# Altium schematic symbol library micro32_plus_Library.SchLib: 56 symbols
Pins are listed as number, name and electrical type; pins without a type are passive.

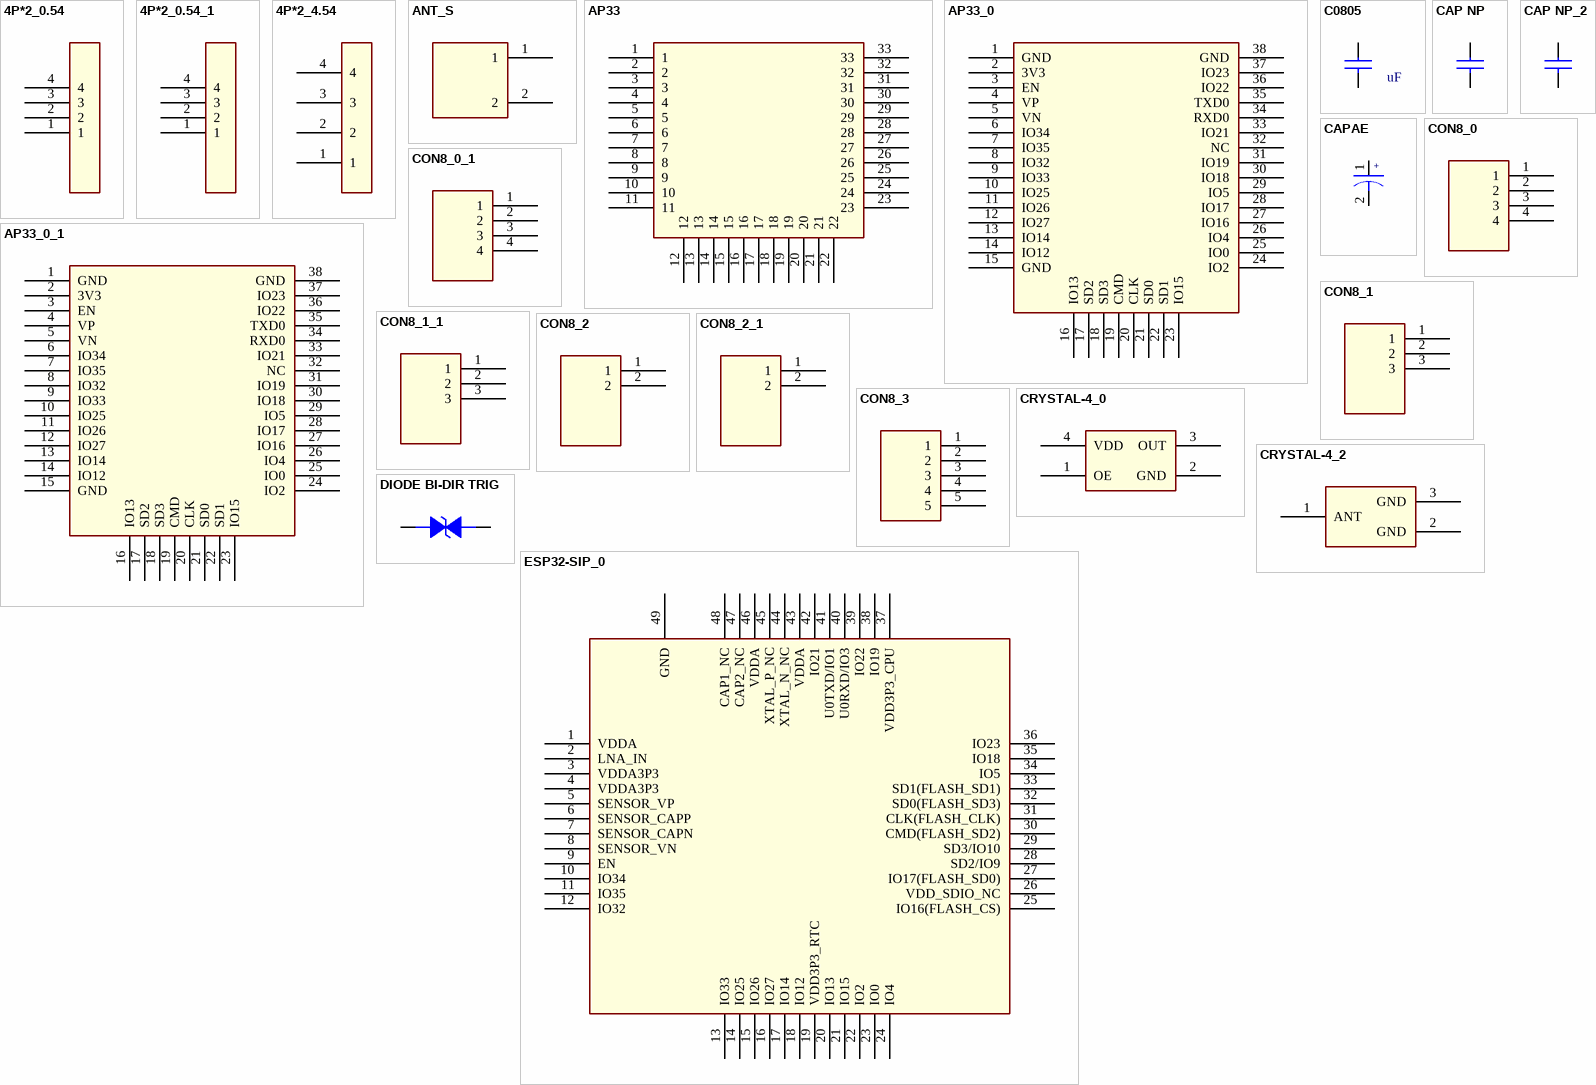
[diagram p0: symbols 4P*2_0.54 to ESP32-SIP_0]

## 4P*2_0.54
designator J??
pins: 1, 2, 3, 4

## 4P*2_0.54_1
designator J??
pins: 1, 2, 3, 4

## 4P*2_4.54
designator J??
pins: 1, 2, 3, 4

## ANT_S
designator U?
footprint ANT2
pins: 1, 2

## AP33
designator U?
footprint 33PIN_10
pins: 1, 2, 3, 4, 5, 6, 7, 8, 9, 10, 11, 12, 13, 14, 15, 16, 17, 18, 19, 20, 21, 22, 23, 24, 25, 26, 27, 28, 29, 30, 31, 32, 33

## AP33_0
designator U?
footprint 33PIN_10
pins: 1 GND (power), 2 3V3, 3 EN, 4 VP, 5 VN, 6 IO34, 7 IO35, 8 IO32, 9 IO33, 10 IO25, 11 IO26, 12 IO27, 13 IO14, 14 IO12, 15 GND (power), 16 IO13, 17 SD2, 18 SD3, 19 CMD, 20 CLK, 21 SD0, 22 SD1, 23 IO15, 24 IO2, 25 IO0, 26 IO4, 27 IO16, 28 IO17, 29 IO5, 30 IO18, 31 IO19, 32 NC, 33 IO21, 34 RXD0, 35 TXD0, 36 IO22, 37 IO23, 38 GND (power)

## AP33_0_1
designator U?
footprint 33PIN_10
pins: 1 GND (power), 2 3V3, 3 EN, 4 VP, 5 VN, 6 IO34, 7 IO35, 8 IO32, 9 IO33, 10 IO25, 11 IO26, 12 IO27, 13 IO14, 14 IO12, 15 GND (power), 16 IO13, 17 SD2, 18 SD3, 19 CMD, 20 CLK, 21 SD0, 22 SD1, 23 IO15, 24 IO2, 25 IO0, 26 IO4, 27 IO16, 28 IO17, 29 IO5, 30 IO18, 31 IO19, 32 NC, 33 IO21, 34 RXD0, 35 TXD0, 36 IO22, 37 IO23, 38 GND (power)

## C0805
designator C?, comment uF
PCB Footprint: C0805
footprint C0805
pins: 1, 2

## CAP NP
designator C?
footprint C0402
pins: 1, 2

## CAP NP_2
designator C?
pins: 1, 2

## CAPAE
designator C?
Manufacturer #1: HuaWei（常州华威）; Part Number: CD11W; Description（描述）: ???; Rated Voltage range: 4~50V; Nominal capacitance range: 0.1~470uF; Capacitance tolerance: ±20%(120Hz,+20℃; Case size table: 5mm in height; Manufacturer #2: FengHua（广东风华）; Part Type: 铝电解电容（SM STD）
pins: 1, 2
text: +

## CON8_0
designator CON?
pins: 1, 2, 3, 4

## CON8_0_1
designator CON?
pins: 1, 2, 3, 4

## CON8_1
designator CON?
pins: 1, 2, 3

## CON8_1_1
designator CON?
pins: 1, 2, 3

## CON8_2
designator CON?
pins: 1, 2

## CON8_2_1
designator CON?
pins: 1, 2

## CON8_3
designator CON?
pins: 1, 2, 3, 4, 5

## CRYSTAL-4_0
designator Y?
footprint CRY-3225
pins: 1 OE, 2 GND, 3 OUT, 4 VDD

## CRYSTAL-4_2
designator Y?
footprint CRY-3225
pins: 1 ANT, 2 GND, 3 GND

## DIODE BI-DIR TRIG
designator D?
pins: 1, 2

## ESP32-SIP_0
designator U?
footprint QFN-49
pins: 1 VDDA (power), 2 LNA_IN, 3 VDDA3P3 (power), 4 VDDA3P3 (power), 5 SENSOR_VP, 6 SENSOR_CAPP, 7 SENSOR_CAPN, 8 SENSOR_VN, 9 EN, 10 IO34, 11 IO35, 12 IO32, 13 IO33, 14 IO25, 15 IO26, 16 IO27, 17 IO14, 18 IO12, 19 VDD3P3_RTC, 20 IO13, 21 IO15, 22 IO2, 23 IO0, 24 IO4, 25 IO16(FLASH_CS), 26 VDD_SDIO_NC, 27 IO17(FLASH_SD0), 28 SD2/IO9, 29 SD3/IO10, 30 CMD(FLASH_SD2), 31 CLK(FLASH_CLK), 32 SD0(FLASH_SD3), 33 SD1(FLASH_SD1), 34 IO5, 35 IO18, 36 IO23, 37 VDD3P3_CPU, 38 IO19, 39 IO22, 40 U0RXD/IO3, 41 U0TXD/IO1, 42 IO21, 43 VDDA (power), 44 XTAL_N_NC, 45 XTAL_P_NC, 46 VDDA (power), 47 CAP2_NC, 48 CAP1_NC, 49 GND

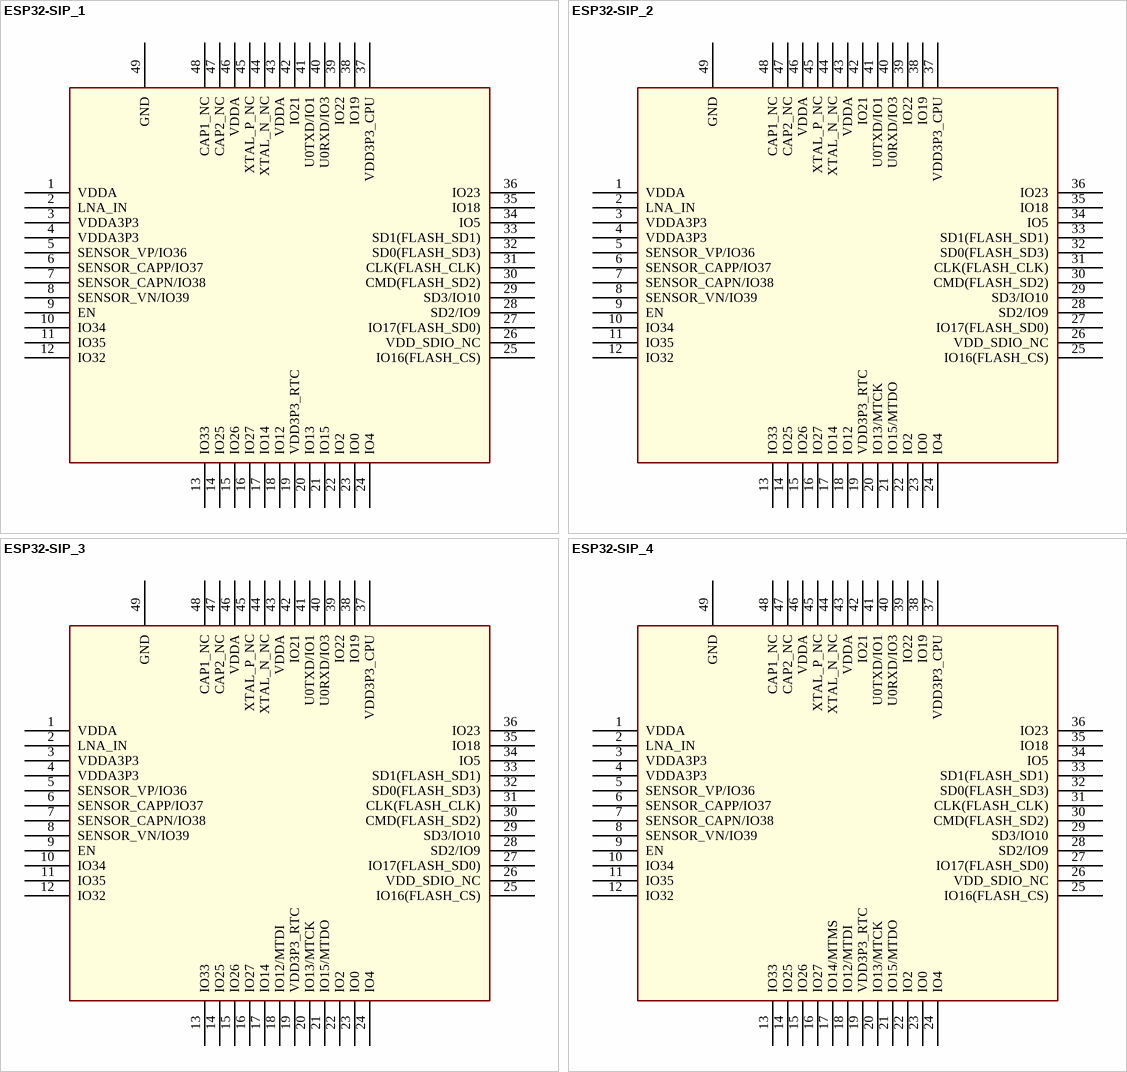
[diagram p1: symbols ESP32-SIP_1 to ESP32-SIP_4]

## ESP32-SIP_1
designator U?
footprint QFN-49
pins: 1 VDDA (power), 2 LNA_IN, 3 VDDA3P3 (power), 4 VDDA3P3 (power), 5 SENSOR_VP/IO36, 6 SENSOR_CAPP/IO37, 7 SENSOR_CAPN/IO38, 8 SENSOR_VN/IO39, 9 EN, 10 IO34, 11 IO35, 12 IO32, 13 IO33, 14 IO25, 15 IO26, 16 IO27, 17 IO14, 18 IO12, 19 VDD3P3_RTC, 20 IO13, 21 IO15, 22 IO2, 23 IO0, 24 IO4, 25 IO16(FLASH_CS), 26 VDD_SDIO_NC, 27 IO17(FLASH_SD0), 28 SD2/IO9, 29 SD3/IO10, 30 CMD(FLASH_SD2), 31 CLK(FLASH_CLK), 32 SD0(FLASH_SD3), 33 SD1(FLASH_SD1), 34 IO5, 35 IO18, 36 IO23, 37 VDD3P3_CPU, 38 IO19, 39 IO22, 40 U0RXD/IO3, 41 U0TXD/IO1, 42 IO21, 43 VDDA (power), 44 XTAL_N_NC, 45 XTAL_P_NC, 46 VDDA (power), 47 CAP2_NC, 48 CAP1_NC, 49 GND

## ESP32-SIP_2
designator U?
footprint QFN-49
pins: 1 VDDA (power), 2 LNA_IN, 3 VDDA3P3 (power), 4 VDDA3P3 (power), 5 SENSOR_VP/IO36, 6 SENSOR_CAPP/IO37, 7 SENSOR_CAPN/IO38, 8 SENSOR_VN/IO39, 9 EN, 10 IO34, 11 IO35, 12 IO32, 13 IO33, 14 IO25, 15 IO26, 16 IO27, 17 IO14, 18 IO12, 19 VDD3P3_RTC, 20 IO13/MTCK, 21 IO15/MTDO, 22 IO2, 23 IO0, 24 IO4, 25 IO16(FLASH_CS), 26 VDD_SDIO_NC, 27 IO17(FLASH_SD0), 28 SD2/IO9, 29 SD3/IO10, 30 CMD(FLASH_SD2), 31 CLK(FLASH_CLK), 32 SD0(FLASH_SD3), 33 SD1(FLASH_SD1), 34 IO5, 35 IO18, 36 IO23, 37 VDD3P3_CPU, 38 IO19, 39 IO22, 40 U0RXD/IO3, 41 U0TXD/IO1, 42 IO21, 43 VDDA (power), 44 XTAL_N_NC, 45 XTAL_P_NC, 46 VDDA (power), 47 CAP2_NC, 48 CAP1_NC, 49 GND

## ESP32-SIP_3
designator U?
footprint QFN-49
pins: 1 VDDA (power), 2 LNA_IN, 3 VDDA3P3 (power), 4 VDDA3P3 (power), 5 SENSOR_VP/IO36, 6 SENSOR_CAPP/IO37, 7 SENSOR_CAPN/IO38, 8 SENSOR_VN/IO39, 9 EN, 10 IO34, 11 IO35, 12 IO32, 13 IO33, 14 IO25, 15 IO26, 16 IO27, 17 IO14, 18 IO12/MTDI, 19 VDD3P3_RTC, 20 IO13/MTCK, 21 IO15/MTDO, 22 IO2, 23 IO0, 24 IO4, 25 IO16(FLASH_CS), 26 VDD_SDIO_NC, 27 IO17(FLASH_SD0), 28 SD2/IO9, 29 SD3/IO10, 30 CMD(FLASH_SD2), 31 CLK(FLASH_CLK), 32 SD0(FLASH_SD3), 33 SD1(FLASH_SD1), 34 IO5, 35 IO18, 36 IO23, 37 VDD3P3_CPU, 38 IO19, 39 IO22, 40 U0RXD/IO3, 41 U0TXD/IO1, 42 IO21, 43 VDDA (power), 44 XTAL_N_NC, 45 XTAL_P_NC, 46 VDDA (power), 47 CAP2_NC, 48 CAP1_NC, 49 GND

## ESP32-SIP_4
designator U?
footprint QFN-49
pins: 1 VDDA (power), 2 LNA_IN, 3 VDDA3P3 (power), 4 VDDA3P3 (power), 5 SENSOR_VP/IO36, 6 SENSOR_CAPP/IO37, 7 SENSOR_CAPN/IO38, 8 SENSOR_VN/IO39, 9 EN, 10 IO34, 11 IO35, 12 IO32, 13 IO33, 14 IO25, 15 IO26, 16 IO27, 17 IO14/MTMS, 18 IO12/MTDI, 19 VDD3P3_RTC, 20 IO13/MTCK, 21 IO15/MTDO, 22 IO2, 23 IO0, 24 IO4, 25 IO16(FLASH_CS), 26 VDD_SDIO_NC, 27 IO17(FLASH_SD0), 28 SD2/IO9, 29 SD3/IO10, 30 CMD(FLASH_SD2), 31 CLK(FLASH_CLK), 32 SD0(FLASH_SD3), 33 SD1(FLASH_SD1), 34 IO5, 35 IO18, 36 IO23, 37 VDD3P3_CPU, 38 IO19, 39 IO22, 40 U0RXD/IO3, 41 U0TXD/IO1, 42 IO21, 43 VDDA (power), 44 XTAL_N_NC, 45 XTAL_P_NC, 46 VDDA (power), 47 CAP2_NC, 48 CAP1_NC, 49 GND

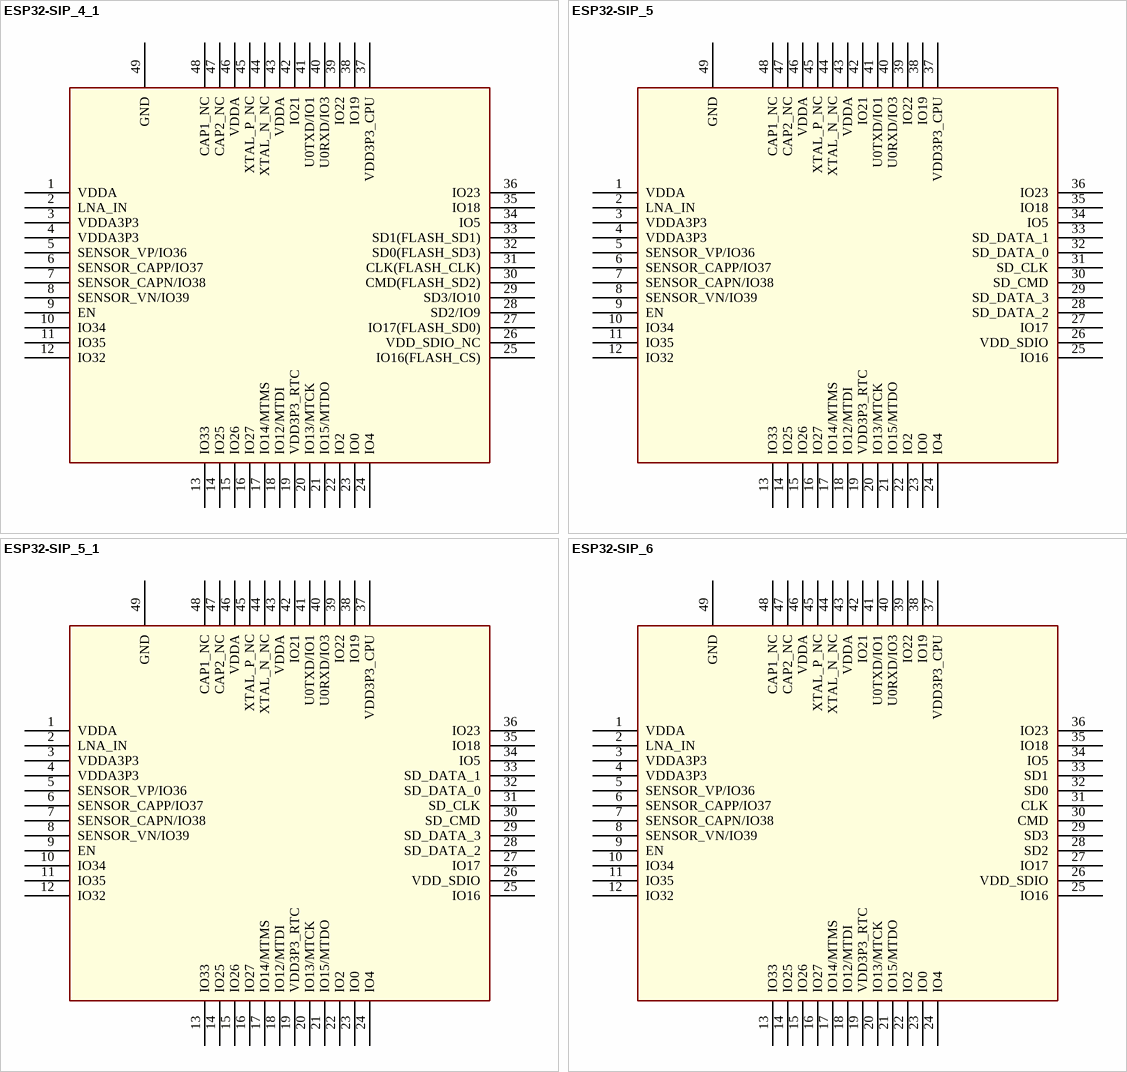
[diagram p2: symbols ESP32-SIP_4_1 to ESP32-SIP_6]

## ESP32-SIP_4_1
designator U?
footprint QFN-49
pins: 1 VDDA (power), 2 LNA_IN, 3 VDDA3P3 (power), 4 VDDA3P3 (power), 5 SENSOR_VP/IO36, 6 SENSOR_CAPP/IO37, 7 SENSOR_CAPN/IO38, 8 SENSOR_VN/IO39, 9 EN, 10 IO34, 11 IO35, 12 IO32, 13 IO33, 14 IO25, 15 IO26, 16 IO27, 17 IO14/MTMS, 18 IO12/MTDI, 19 VDD3P3_RTC, 20 IO13/MTCK, 21 IO15/MTDO, 22 IO2, 23 IO0, 24 IO4, 25 IO16(FLASH_CS), 26 VDD_SDIO_NC, 27 IO17(FLASH_SD0), 28 SD2/IO9, 29 SD3/IO10, 30 CMD(FLASH_SD2), 31 CLK(FLASH_CLK), 32 SD0(FLASH_SD3), 33 SD1(FLASH_SD1), 34 IO5, 35 IO18, 36 IO23, 37 VDD3P3_CPU, 38 IO19, 39 IO22, 40 U0RXD/IO3, 41 U0TXD/IO1, 42 IO21, 43 VDDA (power), 44 XTAL_N_NC, 45 XTAL_P_NC, 46 VDDA (power), 47 CAP2_NC, 48 CAP1_NC, 49 GND

## ESP32-SIP_5
designator U?
footprint QFN-49
pins: 1 VDDA (power), 2 LNA_IN, 3 VDDA3P3 (power), 4 VDDA3P3 (power), 5 SENSOR_VP/IO36, 6 SENSOR_CAPP/IO37, 7 SENSOR_CAPN/IO38, 8 SENSOR_VN/IO39, 9 EN, 10 IO34, 11 IO35, 12 IO32, 13 IO33, 14 IO25, 15 IO26, 16 IO27, 17 IO14/MTMS, 18 IO12/MTDI, 19 VDD3P3_RTC, 20 IO13/MTCK, 21 IO15/MTDO, 22 IO2, 23 IO0, 24 IO4, 25 IO16, 26 VDD_SDIO, 27 IO17, 28 SD_DATA_2, 29 SD_DATA_3, 30 SD_CMD, 31 SD_CLK, 32 SD_DATA_0, 33 SD_DATA_1, 34 IO5, 35 IO18, 36 IO23, 37 VDD3P3_CPU, 38 IO19, 39 IO22, 40 U0RXD/IO3, 41 U0TXD/IO1, 42 IO21, 43 VDDA (power), 44 XTAL_N_NC, 45 XTAL_P_NC, 46 VDDA (power), 47 CAP2_NC, 48 CAP1_NC, 49 GND

## ESP32-SIP_5_1
designator U?
footprint QFN-49
pins: 1 VDDA (power), 2 LNA_IN, 3 VDDA3P3 (power), 4 VDDA3P3 (power), 5 SENSOR_VP/IO36, 6 SENSOR_CAPP/IO37, 7 SENSOR_CAPN/IO38, 8 SENSOR_VN/IO39, 9 EN, 10 IO34, 11 IO35, 12 IO32, 13 IO33, 14 IO25, 15 IO26, 16 IO27, 17 IO14/MTMS, 18 IO12/MTDI, 19 VDD3P3_RTC, 20 IO13/MTCK, 21 IO15/MTDO, 22 IO2, 23 IO0, 24 IO4, 25 IO16, 26 VDD_SDIO, 27 IO17, 28 SD_DATA_2, 29 SD_DATA_3, 30 SD_CMD, 31 SD_CLK, 32 SD_DATA_0, 33 SD_DATA_1, 34 IO5, 35 IO18, 36 IO23, 37 VDD3P3_CPU, 38 IO19, 39 IO22, 40 U0RXD/IO3, 41 U0TXD/IO1, 42 IO21, 43 VDDA (power), 44 XTAL_N_NC, 45 XTAL_P_NC, 46 VDDA (power), 47 CAP2_NC, 48 CAP1_NC, 49 GND

## ESP32-SIP_6
designator U?
footprint QFN-49
pins: 1 VDDA (power), 2 LNA_IN, 3 VDDA3P3 (power), 4 VDDA3P3 (power), 5 SENSOR_VP/IO36, 6 SENSOR_CAPP/IO37, 7 SENSOR_CAPN/IO38, 8 SENSOR_VN/IO39, 9 EN, 10 IO34, 11 IO35, 12 IO32, 13 IO33, 14 IO25, 15 IO26, 16 IO27, 17 IO14/MTMS, 18 IO12/MTDI, 19 VDD3P3_RTC, 20 IO13/MTCK, 21 IO15/MTDO, 22 IO2, 23 IO0, 24 IO4, 25 IO16, 26 VDD_SDIO, 27 IO17, 28 SD2, 29 SD3, 30 CMD, 31 CLK, 32 SD0, 33 SD1, 34 IO5, 35 IO18, 36 IO23, 37 VDD3P3_CPU, 38 IO19, 39 IO22, 40 U0RXD/IO3, 41 U0TXD/IO1, 42 IO21, 43 VDDA (power), 44 XTAL_N_NC, 45 XTAL_P_NC, 46 VDDA (power), 47 CAP2_NC, 48 CAP1_NC, 49 GND

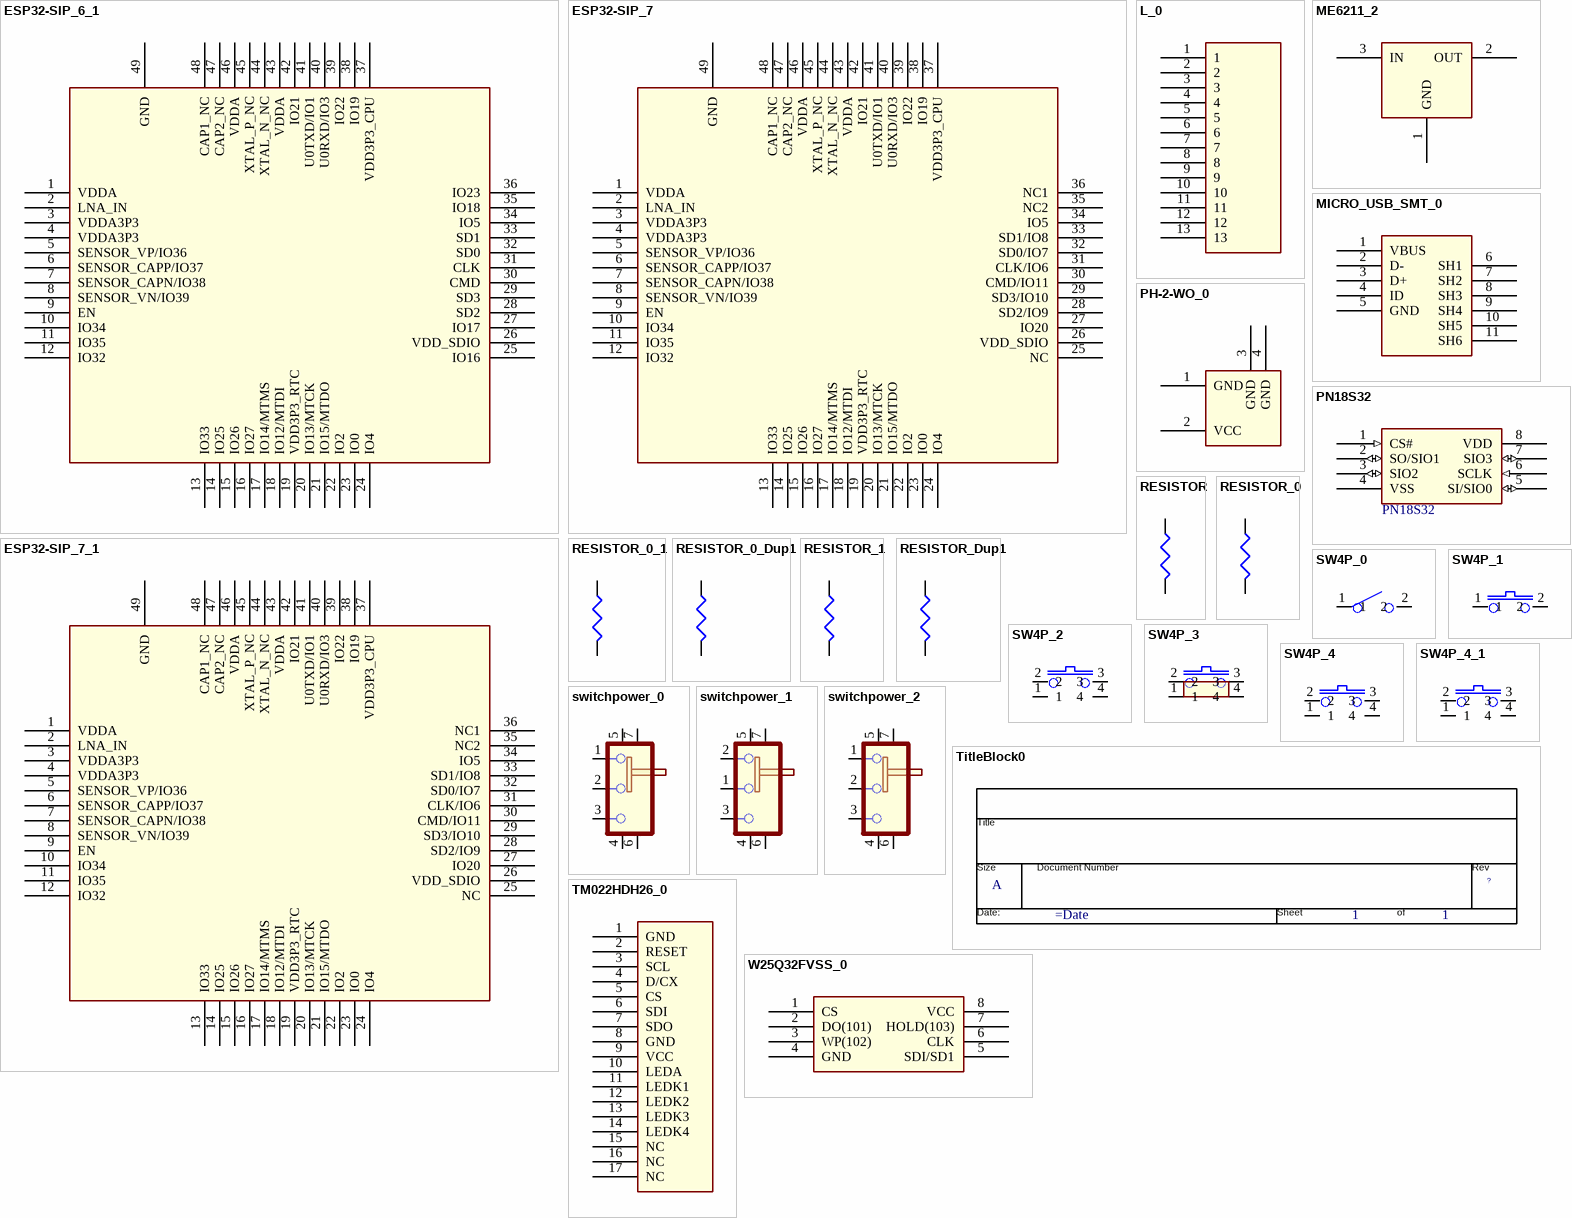
[diagram p3: symbols ESP32-SIP_6_1 to W25Q32FVSS_0]

## ESP32-SIP_6_1
designator U?
footprint QFN-49
pins: 1 VDDA (power), 2 LNA_IN, 3 VDDA3P3 (power), 4 VDDA3P3 (power), 5 SENSOR_VP/IO36, 6 SENSOR_CAPP/IO37, 7 SENSOR_CAPN/IO38, 8 SENSOR_VN/IO39, 9 EN, 10 IO34, 11 IO35, 12 IO32, 13 IO33, 14 IO25, 15 IO26, 16 IO27, 17 IO14/MTMS, 18 IO12/MTDI, 19 VDD3P3_RTC, 20 IO13/MTCK, 21 IO15/MTDO, 22 IO2, 23 IO0, 24 IO4, 25 IO16, 26 VDD_SDIO, 27 IO17, 28 SD2, 29 SD3, 30 CMD, 31 CLK, 32 SD0, 33 SD1, 34 IO5, 35 IO18, 36 IO23, 37 VDD3P3_CPU, 38 IO19, 39 IO22, 40 U0RXD/IO3, 41 U0TXD/IO1, 42 IO21, 43 VDDA (power), 44 XTAL_N_NC, 45 XTAL_P_NC, 46 VDDA (power), 47 CAP2_NC, 48 CAP1_NC, 49 GND

## ESP32-SIP_7
designator U?
footprint QFN-49
pins: 1 VDDA (power), 2 LNA_IN, 3 VDDA3P3 (power), 4 VDDA3P3 (power), 5 SENSOR_VP/IO36, 6 SENSOR_CAPP/IO37, 7 SENSOR_CAPN/IO38, 8 SENSOR_VN/IO39, 9 EN, 10 IO34, 11 IO35, 12 IO32, 13 IO33, 14 IO25, 15 IO26, 16 IO27, 17 IO14/MTMS, 18 IO12/MTDI, 19 VDD3P3_RTC, 20 IO13/MTCK, 21 IO15/MTDO, 22 IO2, 23 IO0, 24 IO4, 25 NC, 26 VDD_SDIO, 27 IO20, 28 SD2/IO9, 29 SD3/IO10, 30 CMD/IO11, 31 CLK/IO6, 32 SD0/IO7, 33 SD1/IO8, 34 IO5, 35 NC2, 36 NC1, 37 VDD3P3_CPU, 38 IO19, 39 IO22, 40 U0RXD/IO3, 41 U0TXD/IO1, 42 IO21, 43 VDDA (power), 44 XTAL_N_NC, 45 XTAL_P_NC, 46 VDDA (power), 47 CAP2_NC, 48 CAP1_NC, 49 GND

## ESP32-SIP_7_1
designator U?
footprint QFN-49
pins: 1 VDDA (power), 2 LNA_IN, 3 VDDA3P3 (power), 4 VDDA3P3 (power), 5 SENSOR_VP/IO36, 6 SENSOR_CAPP/IO37, 7 SENSOR_CAPN/IO38, 8 SENSOR_VN/IO39, 9 EN, 10 IO34, 11 IO35, 12 IO32, 13 IO33, 14 IO25, 15 IO26, 16 IO27, 17 IO14/MTMS, 18 IO12/MTDI, 19 VDD3P3_RTC, 20 IO13/MTCK, 21 IO15/MTDO, 22 IO2, 23 IO0, 24 IO4, 25 NC, 26 VDD_SDIO, 27 IO20, 28 SD2/IO9, 29 SD3/IO10, 30 CMD/IO11, 31 CLK/IO6, 32 SD0/IO7, 33 SD1/IO8, 34 IO5, 35 NC2, 36 NC1, 37 VDD3P3_CPU, 38 IO19, 39 IO22, 40 U0RXD/IO3, 41 U0TXD/IO1, 42 IO21, 43 VDDA (power), 44 XTAL_N_NC, 45 XTAL_P_NC, 46 VDDA (power), 47 CAP2_NC, 48 CAP1_NC, 49 GND

## L_0
designator U?
footprint 13PIN_2.54
pins: 1, 2, 3, 4, 5, 6, 7, 8, 9, 10, 11, 12, 13

## ME6211_2
designator U?
footprint SOT23-5
pins: 1 GND, 2 OUT, 3 IN

## MICRO_USB_SMT_0
designator U?
footprint USB-MICRO-DIP
pins: 1 VBUS, 2 D-, 3 D+, 4 ID, 5 GND, 6 SH1, 7 SH2, 8 SH3, 9 SH4, 10 SH5, 11 SH6

## PH-2-WO_0
designator U?
footprint 2-PIN
pins: 1 GND (power), 2 VCC, 3 GND (power), 4 GND (power)

## PN18S32
designator U?
pins: 1 CS# (in), 2 SO/SIO1 (io), 3 SIO2 (io), 4 VSS (power), 5 SI/SIO0 (io), 6 SCLK (in), 7 SIO3 (io), 8 VDD (power)

## RESISTOR
designator R?
pins: 1, 2

## RESISTOR_0
designator R?
pins: 1, 2

## RESISTOR_0_1
designator R?
pins: 1, 2

## RESISTOR_0_Dup1
designator R?
pins: 1, 2

## RESISTOR_1
designator R?
pins: 1, 2

## RESISTOR_Dup1
designator R?
pins: 1, 2

## SW4P_0
designator SW?
pins: 1, 2

## SW4P_1
designator SW?
pins: 1, 2

## SW4P_2
designator SW?
pins: 1, 2, 3, 4

## SW4P_3
designator SW?
footprint TS-19A
pins: 1, 2, 3, 4

## SW4P_4
designator SW?
footprint TS-19A
pins: 1, 2, 3, 4

## SW4P_4_1
designator SW?
footprint TS-19A
pins: 1, 2, 3, 4

## switchpower_0
designator SW?
footprint switchpower
pins: 1, 2, 3, 4, 5, 6, 7

## switchpower_1
designator SW?
footprint switchpower
pins: 1, 2, 3, 4, 5, 6, 7

## switchpower_2
designator SW?
footprint switchpower
pins: 1, 2, 3, 4, 5, 6, 7

## TitleBlock0
designator *  Page Count: 1  Page Size: A  (hidden comment: *)  (graphical)
Page Number: 1; RevCode: ?; Page Create Date: March  8, 1995; Page Modify Date: =Date
text: Title; Size; Document Number; Rev; Date:; Sheet; of

## TM022HDH26_0
designator U?
footprint 14PIN_LCD22
pins: 1 GND (power), 2 RESET, 3 SCL, 4 D/CX, 5 CS, 6 SDI, 7 SDO, 8 GND (power), 9 VCC, 10 LEDA, 11 LEDK1, 12 LEDK2, 13 LEDK3, 14 LEDK4, 15 NC (power), 16 NC (power), 17 NC (power)

## W25Q32FVSS_0
designator U?
footprint SOP-8
pins: 1 CS, 2 DO(101), 3 WP(102), 4 GND, 5 SDI/SD1, 6 CLK, 7 HOLD(103), 8 VCC